# Altium integrated library FPGA_interface.IntLib: 3 symbols
Pins are listed as number, name and electrical type; pins without a type are passive.

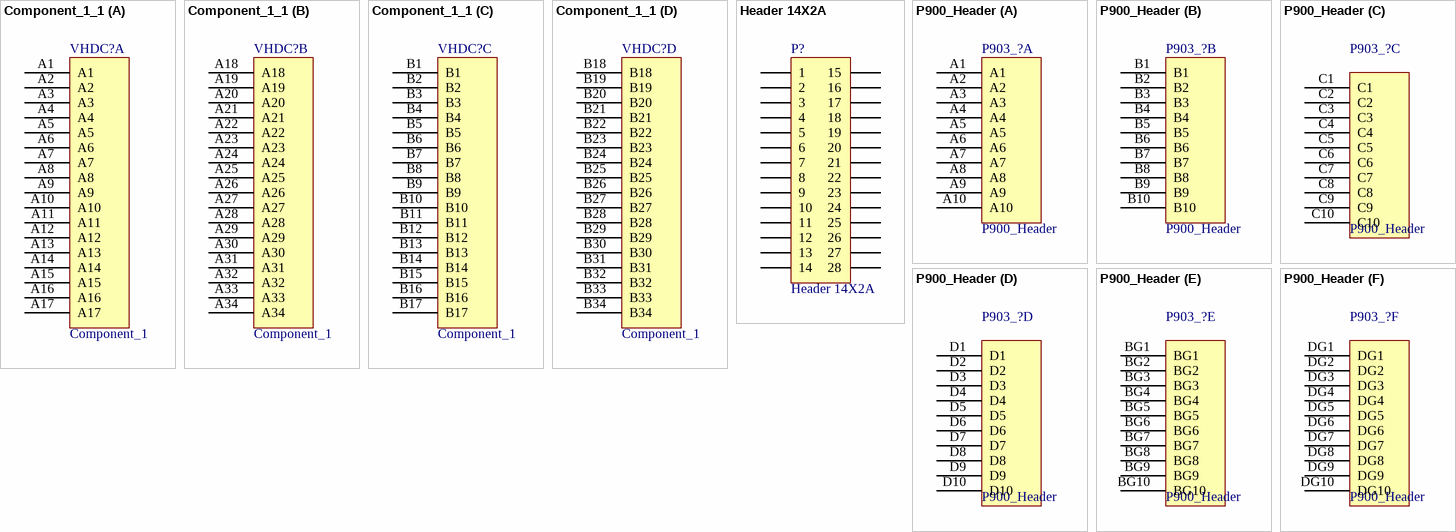
[diagram p0: symbols Component_1_1 to P900_Header]

## Component_1_1
designator VHDC?, comment Component_1
VHDC_connector
footprint VHDCP-68-01-M-EM: PLUG
part A pins: A1, A2, A3, A4, A5, A6, A7, A8, A9, A10, A11, A12, A13, A14, A15, A16, A17
part B pins: A18, A19, A20, A21, A22, A23, A24, A25, A26, A27, A28, A29, A30, A31, A32, A33, A34
part C pins: B1, B2, B3, B4, B5, B6, B7, B8, B9, B10, B11, B12, B13, B14, B15, B16, B17
part D pins: B18, B19, B20, B21, B22, B23, B24, B25, B26, B27, B28, B29, B30, B31, B32, B33, B34

## Header 14X2A
designator P?
Header, 14-Pin, Dual row; LatestRevisionDate: 17-Jul-2002; LatestRevisionNote: Re-released for DXP Platform.; Publisher: Altium Limited
footprint HDR2X14_CEN (Connector; Header; 14x2 Position)
signal-integrity model Connector
pins: 1, 2, 3, 4, 5, 6, 7, 8, 9, 10, 11, 12, 13, 14, 15, 16, 17, 18, 19, 20, 21, 22, 23, 24, 25, 26, 27, 28

## P900_Header
designator P903_?
footprint P900_header; pin to pad A1>ADC
part A pins: A1, A2, A3, A4, A5, A6, A7, A8, A9, A10
part B pins: B1, B2, B3, B4, B5, B6, B7, B8, B9, B10
part C pins: C1, C2, C3, C4, C5, C6, C7, C8, C9, C10
part D pins: D1, D2, D3, D4, D5, D6, D7, D8, D9, D10
part E pins: BG1, BG2, BG3, BG4, BG5, BG6, BG7, BG8, BG9, BG10
part F pins: DG1, DG2, DG3, DG4, DG5, DG6, DG7, DG8, DG9, DG10